# Altium footprint library Pheonix_header_3X2_pin.PcbLib: 1 footprints
Each footprint in its own frame and in the unit in brackets; x right, y up, seen from the top. Pads: shape width x height; smd on the part's side, far side on the other; paste and mask are expansions set on the pad; w line width, h text height; cw(c..) or ccw(c..) is an arc to the next point about the centre after c.
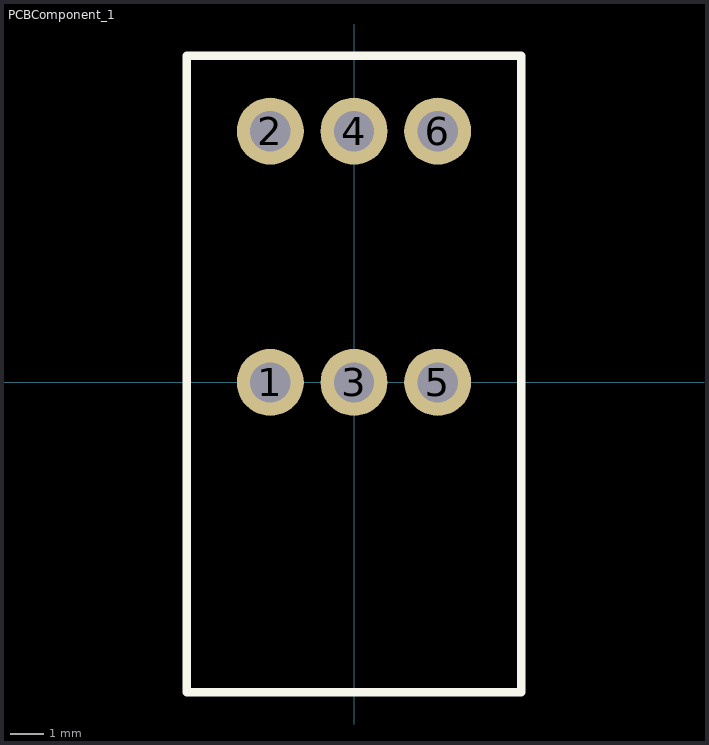
[diagram p0: the footprint, top view; thin cyan lines are the x and y axes]

## PCBComponent_1 [mm]
pads (6):
  round 2 hole 1.2: 1(-2.5,0) 2(-2.5,7.5) 3(0,0) 4(0,7.5) 5(2.5,0) 6(2.5,7.5)
Top Overlay:
  lines w0.254: -5,-9.25 -5,9.75 5,9.75 5,-9.25 -5,-9.25